# EAGLE library part MAX3421E (library microbuilder)
MAX3421E SPI-Interface USB Device/Host Controller Digikey: MAX3421EETJ+-ND
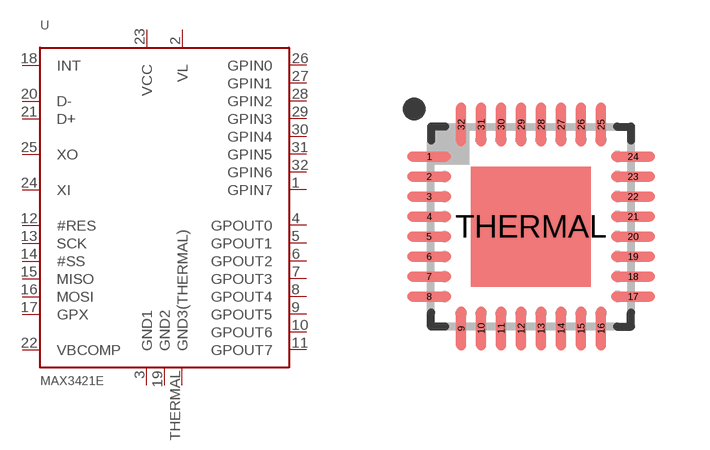
[diagram p104: symbol with the pads of HVQFN32-5X5_3MMTHERMAL; footprint HVQFN32-5X5_3MMTHERMAL]

Designator prefix U

## MAX3421E  [HVQFN32-5X5_3MMTHERMAL]
1  GPIN7  in
2  VL  pwr
3  GND1  pwr
4  GPOUT0  out
5  GPOUT1  out
6  GPOUT2  out
7  GPOUT3  out
8  GPOUT4  out
9  GPOUT5  out
10  GPOUT6  out
11  GPOUT7  out
12  #RES
13  SCK
14  #SS
15  MISO
16  MOSI
17  GPX
18  INT
19  GND2  pwr
20  D-
21  D+
22  VBCOMP
23  VCC  pwr
24  XI
25  XO
26  GPIN0  in
27  GPIN1  in
28  GPIN2  in
29  GPIN3  in
30  GPIN4  in
31  GPIN5  in
32  GPIN6  in
THERMAL  GND3(THERMAL)  pwr

## Footprint HVQFN32-5X5_3MMTHERMAL (pad centres in mm)
smd 1.1 x 0.25: 1 -2.55,1.75; 2 -2.55,1.25; 3 -2.55,0.75; 4 -2.55,0.25; 5 -2.55,-0.25; 6 -2.55,-0.75; 7 -2.55,-1.25; 8 -2.55,-1.75; 17 2.55,-1.75; 18 2.55,-1.25; 19 2.55,-0.75; 20 2.55,-0.25; 21 2.55,0.25; 22 2.55,0.75; 23 2.55,1.25; 24 2.55,1.75
smd 0.25 x 1.1: 9 -1.75,-2.55; 10 -1.25,-2.55; 11 -0.75,-2.55; 12 -0.25,-2.55; 13 0.25,-2.55; 14 0.75,-2.55; 15 1.25,-2.55; 16 1.75,-2.55; 25 1.75,2.55; 26 1.25,2.55; 27 0.75,2.55; 28 0.25,2.55; 29 -0.25,2.55; 30 -0.75,2.55; 31 -1.25,2.55; 32 -1.75,2.55
smd 3 x 3: THERMAL 0,0